# Altium footprint library HAKATAYA.PcbLib: 227 footprints (part 7 of 15)
Each footprint in its own frame and in the unit in brackets; x right, y up, seen from the top. Pads: shape width x height; smd on the part's side, far side on the other; paste and mask are expansions set on the pad; w line width, h text height; cw(c..) or ccw(c..) is an arc to the next point about the centre after c.
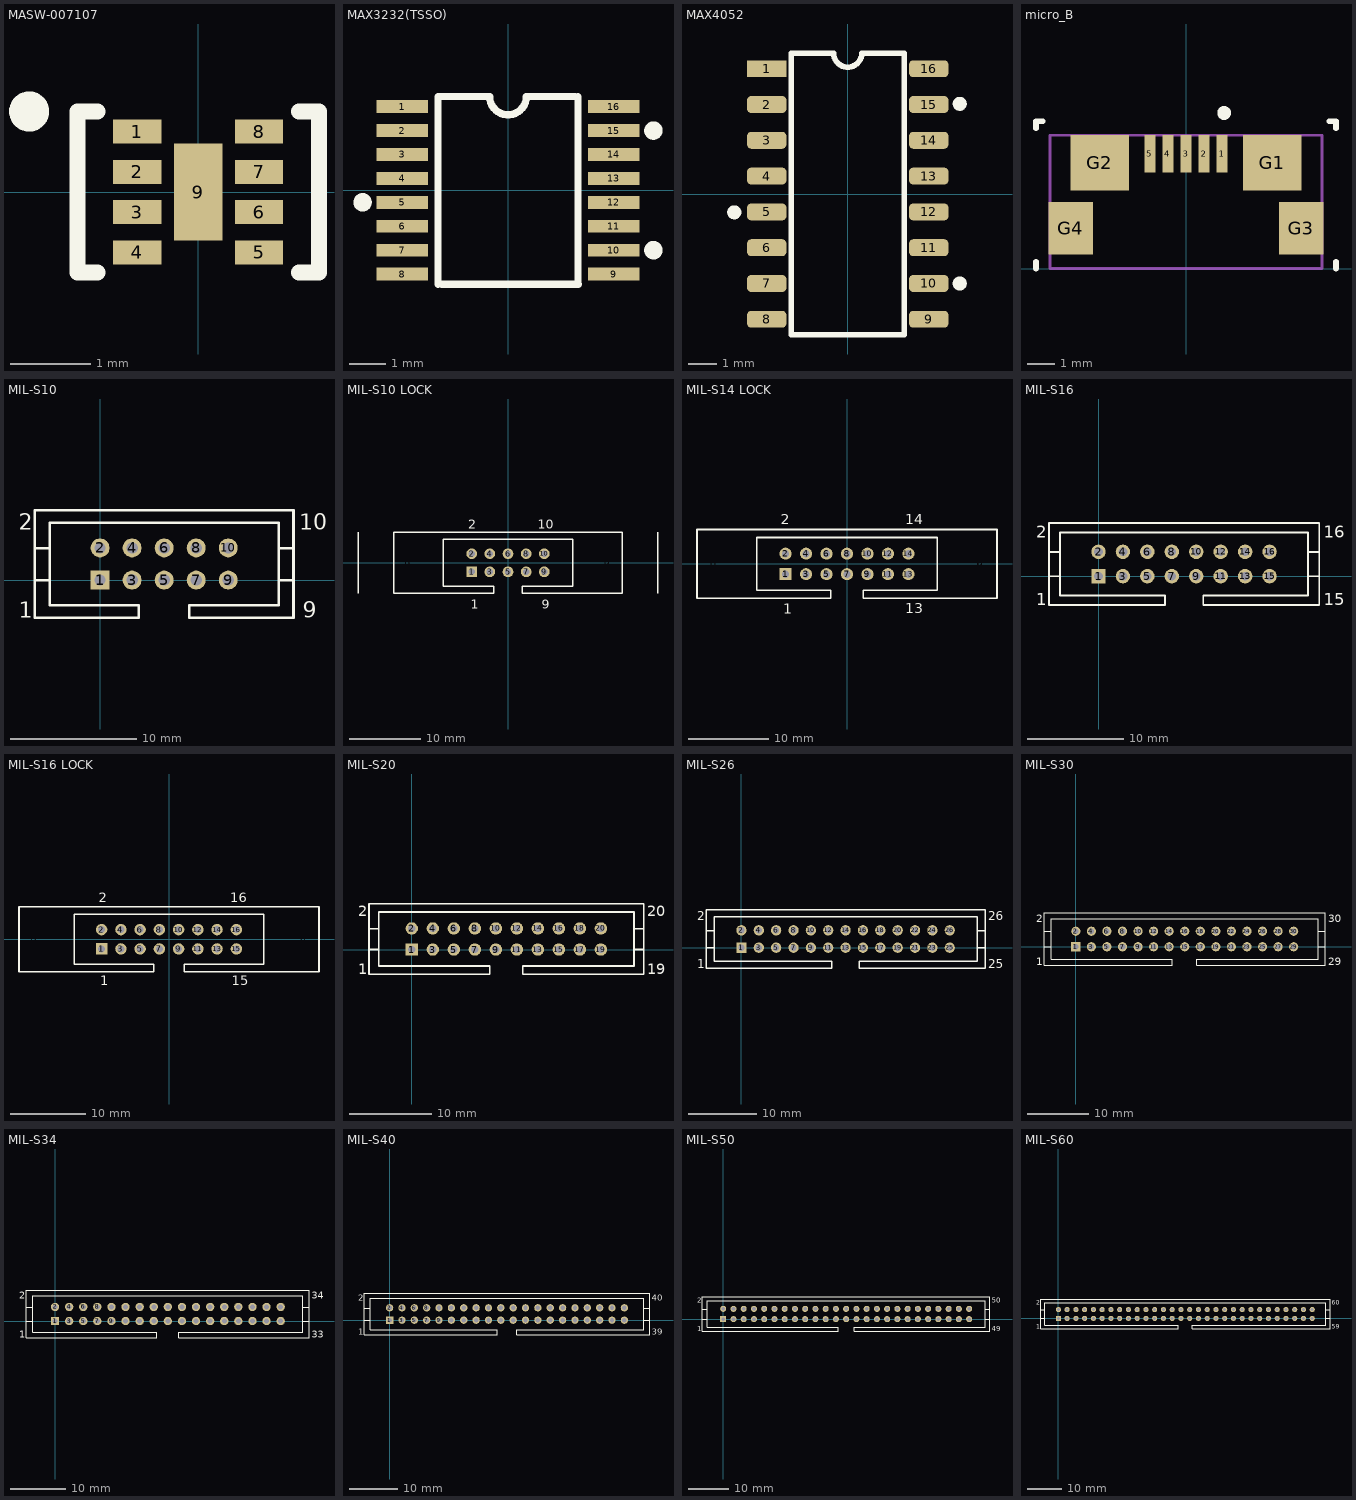
[diagram p6: the footprints below, top view; thin cyan lines are the x and y axes]

## MASW-007107 [mm] "MACOM BROADBAND SWITCH"
height 0.9
pads (9):
  rect 0.6x0.3 smd: 1(-0.755,0.75) 2(-0.755,0.25) 3(-0.755,-0.25) 4(-0.755,-0.75) 5(0.755,-0.75) 6(0.755,-0.25) 7(0.755,0.25) 8(0.755,0.75)
  rect 0.6x1.2 smd mask-3.734: 9(0,0)
Top Overlay:
  circle w0.25: c-2.1,1 r0.125
  lines w0.2: -1.25,-1 -1.5,-1 -1.5,1 -1.25,1 ; 1.25,-1 1.5,-1 1.5,1 1.25,1

## MAX3232(TSSO) [mm] "TSSOP U16+1"
height 1.1
pads (16):
  rect 1.4x0.35 smd: 1(-2.875,2.275) 2(-2.875,1.625) 3(-2.875,0.975) 4(-2.875,0.325) 5(-2.875,-0.325) 6(-2.875,-0.975) 7(-2.875,-1.625) 8(-2.875,-2.275) 9(2.875,-2.275) 10(2.875,-1.625) 11(2.875,-0.975) 12(2.875,-0.325) 13(2.875,0.325) 14(2.875,0.975) 15(2.875,1.625) 16(2.875,2.275)
Top Overlay:
  circle w0.25: c3.95,-1.625 r0.125
  circle w0.25: c-3.95,-0.325 r0.125
  circle w0.25: c3.95,1.625 r0.125
  lines w0.2: -1.9,-2.55 -1.9,2.55 ; -1.85,2.55 -0.5,2.55 ccw(c0,2.55) 0.5,2.55 1.825,2.55 ; -1.8,-2.55 1.908,-2.55 ; 1.9,-2.55 1.9,2.55

## MAX4052 [mm] "Narrow SO  Pitch 1.27mm"
height 1.75
pads (16):
  rect 1.4x0.6 smd: 1(-2.875,4.445)
  rrect50% 1.4x0.6 smd: 2(-2.875,3.175) 3(-2.875,1.905) 4(-2.875,0.635) 5(-2.875,-0.635) 6(-2.875,-1.905) 7(-2.875,-3.175) 8(-2.875,-4.445) 9(2.875,-4.445) 10(2.875,-3.175) 11(2.875,-1.905) 12(2.875,-0.635) 13(2.875,0.635) 14(2.875,1.905) 15(2.875,3.175) 16(2.875,4.445)
Top Overlay:
  circle w0.25: c3.975,-3.175 r0.125
  circle w0.25: c-4.025,-0.65 r0.125
  circle w0.25: c3.975,3.2 r0.125
  lines w0.2: -2,-5 -2,5 -0.5,5 ccw(c0,5) 0.5,5 2,5 2,-5 -2,-5

## micro_B [mm] "USB micro_B"
pads (9):
  rect 0.4x1.35 smd: 1(1.3,4.125) 2(0.65,4.125) 3(0,4.125) 4(-0.65,4.125) 5(-1.3,4.125)
  rect 2.1x2 smd: G1(3.1,3.8) G2(-3.1,3.8)
  rect 1.6x1.9 smd: G3(4.15,1.45) G4(-4.15,1.45)
Top Overlay:
  circle w0.25: c1.375,5.6 r0.125
  lines w0.2: -5.4,0 -5.4,0.25 ; -5.4,5.05 -5.4,5.3 -5.15,5.3 ; 5.15,5.3 5.4,5.3 5.4,5.05 ; 5.4,0 5.4,0.25
Mechanical 13:
  lines w0.1: 4.896,0 4.896,4.8 -4.9,4.8 -4.9,0 4.9,0
3D body: height 1, standoff 0, extent -3.658,0 3.632,3.454

## MIL-S10 [mm] "2.54"
height 14
pads (10):
  rect 1.5x1.5 hole 0.9: 1(0,0)
  round 1.5 hole 0.9: 2(0,2.54) 3(2.54,0) 4(2.54,2.54) 5(5.08,0) 6(5.08,2.54) 7(7.62,0) 8(7.62,2.54) 9(10.16,0) 10(10.16,2.54)
Top Overlay:
  lines w0.2: -5.17,0 -4,0 ; -5.17,2.5 -4,2.5 ; 15.33,0 14.16,0 ; 15.33,2.5 14.16,2.5 ; -4,0 -4,2.5 ; -4,0 -4,-2 3.08,-2 3.08,-3 -5.17,-3 -5.17,5.54 15.33,5.54 15.33,-3 7.08,-3 7.08,-2 14.16,-2 14.16,0 ; -4,2.5 -4,4.54 14.16,4.54 14.16,2.5 ; 14.16,0 14.16,2.5
  text "1" at -6.42,-3 h1.27
  text "2" at -6.42,4 h1.27
  text "9" at 16.08,-3 h1.27
  text "10" at 15.8,4 h1.27

## MIL-S10 LOCK [mm] "XG4A MIL-SPEC"
height 17
pads (12):
  round 1.6 on Drill Drawing: 0(-14,0) 0(14,0)
  rect 1.5x1.5 hole 0.9: 1(-5.08,-1.27)
  round 1.5 hole 0.9: 2(-5.08,1.27) 3(-2.54,-1.27) 4(-2.54,1.27) 5(0,-1.27) 6(0,1.27) 7(2.54,-1.27) 8(2.54,1.27) 9(5.08,-1.27) 10(5.08,1.27)
Top Overlay:
  lines w0.2: -21,-4.27 -21,4.27 ; 21,-4.27 21,4.27 ; -16,-4.27 -2,-4.27 -2,-3.27 -9.08,-3.27 -9.08,-1.27 -9.08,1.23 -9.08,3.27 9.08,3.27 9.08,1.23 9.08,-1.27 9.08,-3.27 2,-3.27 2,-4.27 16,-4.27 16,4.27 -16,4.27 -16,-4.27
  text "1" at -5.2,-6.4 h1.27
  text "2" at -5.6,4.8 h1.27
  text "9" at 4.7,-6.4 h1.27
  text "10" at 4.2,4.8 h1.27

## MIL-S14 LOCK [mm]
pads (16):
  round 1.6 on Drill Drawing: 0(-16.5,0) 0(16.5,0)
  rect 1.5x1.5 hole 0.9: 1(-7.62,-1.27)
  round 1.5 hole 0.9: 2(-7.62,1.27) 3(-5.08,-1.27) 4(-5.08,1.27) 5(-2.54,-1.27) 6(-2.54,1.27) 7(0,-1.27) 8(0,1.27) 9(2.54,-1.27) 10(2.54,1.27) 11(5.08,-1.27) 12(5.08,1.27) 13(7.62,-1.27) 14(7.62,1.27)
Top Overlay:
  lines w0.2: -18.6,-4.27 -18.6,4.27 18.6,4.27 18.6,-4.27 2,-4.27 2,-3.27 11.2,-3.27 11.2,3.27 -11.2,3.27 -11.2,-3.27 -2,-3.27 -2,-4.27 -18.6,-4.27
  text "14" at 7.2,4.9 h1.27
  text "13" at 7.2,-6.1 h1.27
  text "2" at -8.2,4.9 h1.27
  text "1" at -7.9,-6.2 h1.27

## MIL-S16 [mm] "2.54"
height 14
pads (16):
  rect 1.5x1.5 hole 0.9: 1(0,0)
  round 1.5 hole 0.9: 2(0,2.54) 3(2.54,0) 4(2.54,2.54) 5(5.08,0) 6(5.08,2.54) 7(7.62,0) 8(7.62,2.54) 9(10.16,0) 10(10.16,2.54) 11(12.7,0) 12(12.7,2.54) 13(15.24,0) 14(15.24,2.54) 15(17.78,0) 16(17.78,2.54)
Top Overlay:
  lines w0.2: -5.17,0 -4,0 ; -5.17,2.5 -4,2.5 ; 22.95,0 21.78,0 ; 22.95,2.5 21.78,2.5 ; -4,0 -4,2.5 ; -4,0 -4,-2 6.89,-2 6.89,-3 -5.17,-3 -5.17,5.54 22.95,5.54 22.95,-3 10.89,-3 10.89,-2 21.78,-2 21.78,0 ; -4,2.5 -4,4.54 21.78,4.54 21.78,2.5 ; 21.78,0 21.78,2.5
  text "1" at -6.5,-3 h1.27
  text "2" at -6.5,4 h1.27
  text "15" at 23.42,-3 h1.27
  text "16" at 23.42,4 h1.27

## MIL-S16 LOCK [mm]
pads (18):
  round 1.6 on Drill Drawing: 0(-17.8,0) 0(17.8,0)
  rect 1.5x1.5 hole 0.9: 1(-8.89,-1.27)
  round 1.5 hole 0.9: 2(-8.89,1.27) 3(-6.35,-1.27) 4(-6.35,1.27) 5(-3.81,-1.27) 6(-3.81,1.27) 7(-1.27,-1.27) 8(-1.27,1.27) 9(1.27,-1.27) 10(1.27,1.27) 11(3.81,-1.27) 12(3.81,1.27) 13(6.35,-1.27) 14(6.35,1.27) 15(8.89,-1.27) 16(8.89,1.27)
Top Overlay:
  lines w0.2: -19.8,-4.27 -2,-4.27 -2,-3.27 -12.5,-3.27 -12.5,3.27 12.5,3.27 12.5,-3.27 2,-3.27 2,-4.27 19.8,-4.27 19.8,4.27 -19.8,4.27 -19.8,-4.27
  text "1" at -9.1,-6.1 h1.27
  text "2" at -9.3,4.9 h1.27
  text "15" at 8.3,-6.1 h1.27
  text "16" at 8.1,4.9 h1.27

## MIL-S20 [mm] "2.54"
height 14
pads (20):
  rect 1.5x1.5 hole 0.9: 1(0,0)
  round 1.5 hole 0.9: 2(0,2.54) 3(2.54,0) 4(2.54,2.54) 5(5.08,0) 6(5.08,2.54) 7(7.62,0) 8(7.62,2.54) 9(10.16,0) 10(10.16,2.54) 11(12.7,0) 12(12.7,2.54) 13(15.24,0) 14(15.24,2.54) 15(17.78,0) 16(17.78,2.54) 17(20.32,0) 18(20.32,2.54) 19(22.86,0) 20(22.86,2.54)
Top Overlay:
  lines w0.2: -5.17,0 -4,0 ; -5.17,2.5 -4,2.5 ; 28.03,0 26.86,0 ; 28.03,2.5 26.86,2.5 ; -4,0 -4,2.5 ; -4,0 -4,-2 9.43,-2 9.43,-3 -5.17,-3 -5.17,5.54 28.03,5.54 28.03,-3 13.43,-3 13.43,-2 26.86,-2 26.86,0 ; -4,2.5 -4,4.54 26.86,4.54 26.86,2.5 ; 26.86,0 26.86,2.5
  text "20" at 28.5,4 h1.27
  text "19" at 28.5,-3 h1.27
  text "1" at -6.5,-3 h1.27
  text "2" at -6.5,4 h1.27

## MIL-S26 [mm] "2.54"
height 14
pads (26):
  rect 1.5x1.5 hole 0.9: 1(0,0)
  round 1.5 hole 0.9: 2(0,2.54) 3(2.54,0) 4(2.54,2.54) 5(5.08,0) 6(5.08,2.54) 7(7.62,0) 8(7.62,2.54) 9(10.16,0) 10(10.16,2.54) 11(12.7,0) 12(12.7,2.54) 13(15.24,0) 14(15.24,2.54) 15(17.78,0) 16(17.78,2.54) 17(20.32,0) 18(20.32,2.54) 19(22.86,0) 20(22.86,2.54) 21(25.4,0) 22(25.4,2.54) 23(27.94,0) 24(27.94,2.54) 25(30.48,0) 26(30.48,2.54)
Top Overlay:
  lines w0.2: -5.17,0 -4,0 ; -5.17,2.5 -4,2.5 ; 35.65,0 34.48,0 ; 35.65,2.5 34.48,2.5 ; -4,0 -4,-2 13.24,-2 13.24,-3 -5.17,-3 -5.17,5.54 35.65,5.54 35.65,-3 17.24,-3 17.24,-2 34.48,-2 34.48,0 ; -4,0 -4,2.5 ; -4,2.5 -4,4.54 34.48,4.54 34.48,2.5 ; 34.48,0 34.48,2.5
  text "25" at 36.12,-3 h1.27
  text "26" at 36.12,4 h1.27
  text "2" at -6.5,4 h1.27
  text "1" at -6.5,-3 h1.27

## MIL-S30 [mm] "2.54"
height 14
pads (30):
  rect 1.5x1.5 hole 0.9: 1(0,0)
  round 1.5 hole 0.9: 2(0,2.54) 3(2.54,0) 4(2.54,2.54) 5(5.08,0) 6(5.08,2.54) 7(7.62,0) 8(7.62,2.54) 9(10.16,0) 10(10.16,2.54) 11(12.7,0) 12(12.7,2.54) 13(15.24,0) 14(15.24,2.54) 15(17.78,0) 16(17.78,2.54) 17(20.32,0) 18(20.32,2.54) 19(22.86,0) 20(22.86,2.54) 21(25.4,0) 22(25.4,2.54) 23(27.94,0) 24(27.94,2.54) 25(30.48,0) 26(30.48,2.54) 27(33.02,0) 28(33.02,2.54) 29(35.56,0) 30(35.56,2.54)
Top Overlay:
  lines w0.2: -5.17,0 -4,0 ; -5.17,2.5 -4,2.5 ; 40.73,0 39.56,0 ; 40.73,2.5 39.56,2.5 ; -4,0 -4,2.5 ; -4,0 -4,-2 15.78,-2 15.78,-3 -5.17,-3 -5.17,5.54 40.73,5.54 40.73,-3 19.78,-3 19.78,-2 39.56,-2 39.56,0 ; -4,2.5 -4,4.54 39.56,4.54 39.56,2.5 ; 39.56,0 39.56,2.5
  text "29" at 41.2,-3 h1.27
  text "30" at 41.2,4 h1.27
  text "1" at -6.5,-3 h1.27
  text "2" at -6.5,4 h1.27

## MIL-S34 [mm] "2.54"
height 14
pads (34):
  rect 1.5x1.5 hole 0.9: 1(0,0)
  round 1.5 hole 0.9: 2(0,2.54) 3(2.54,0) 4(2.54,2.54) 5(5.08,0) 6(5.08,2.54) 7(7.62,0) 8(7.62,2.54) 9(10.16,0) 10(10.16,2.54) 11(12.7,0) 12(12.7,2.54) 13(15.24,0) 14(15.24,2.54) 15(17.78,0) 16(17.78,2.54) 17(20.32,0) 18(20.32,2.54) 19(22.86,0) 20(22.86,2.54) 21(25.4,0) 22(25.4,2.54) 23(27.94,0) 24(27.94,2.54) 25(30.48,0) 26(30.48,2.54) 27(33.02,0) 28(33.02,2.54) 29(35.56,0) 30(35.56,2.54) 31(38.1,0) 32(38.1,2.54) 33(40.64,0) 34(40.64,2.54)
Top Overlay:
  lines w0.2: -5.17,0 -4,0 ; -5.17,2.5 -4,2.5 ; 45.81,0 44.64,0 ; 45.81,2.5 44.64,2.5 ; -4,0 -4,2.5 ; -4,0 -4,-2 18.32,-2 18.32,-3 -5.17,-3 -5.17,5.54 45.81,5.54 45.81,-3 22.32,-3 22.32,-2 44.64,-2 44.64,0 ; -4,2.5 -4,4.54 44.64,4.54 44.64,2.5 ; 44.64,0 44.64,2.5
  text "33" at 46.28,-3 h1.27
  text "34" at 46.28,4 h1.27
  text "1" at -6.5,-3 h1.27
  text "2" at -6.5,4 h1.27

## MIL-S40 [mm] "2.54"
height 14
pads (40):
  rect 1.5x1.5 hole 0.9: 1(0,0)
  round 1.5 hole 0.9: 2(0,2.54) 3(2.54,0) 4(2.54,2.54) 5(5.08,0) 6(5.08,2.54) 7(7.62,0) 8(7.62,2.54) 9(10.16,0) 10(10.16,2.54) 11(12.7,0) 12(12.7,2.54) 13(15.24,0) 14(15.24,2.54) 15(17.78,0) 16(17.78,2.54) 17(20.32,0) 18(20.32,2.54) 19(22.86,0) 20(22.86,2.54) 21(25.4,0) 22(25.4,2.54) 23(27.94,0) 24(27.94,2.54) 25(30.48,0) 26(30.48,2.54) 27(33.02,0) 28(33.02,2.54) 29(35.56,0) 30(35.56,2.54) 31(38.1,0) 32(38.1,2.54) 33(40.64,0) 34(40.64,2.54) 35(43.18,0) 36(43.18,2.54) 37(45.72,0) 38(45.72,2.54) 39(48.26,0) 40(48.26,2.54)
Top Overlay:
  lines w0.2: -5.17,0 -4,0 ; -5.17,2.5 -4,2.5 ; 53.43,0 52.26,0 ; 53.43,2.5 52.26,2.5 ; -4,0 -4,2.5 ; -4,0 -4,-2 22.13,-2 22.13,-3 -5.17,-3 -5.17,5.54 53.43,5.54 53.43,-3 26.13,-3 26.13,-2 52.26,-2 52.26,0 ; -4,2.5 -4,4.54 52.26,4.54 52.26,2.5 ; 52.26,0 52.26,2.5
  text "1" at -6.5,-3 h1.27
  text "2" at -6.5,4 h1.27
  text "39" at 53.9,-3 h1.27
  text "40" at 53.9,4 h1.27

## MIL-S50 [mm] "2.54"
height 14
pads (50):
  rect 1.5x1.5 hole 0.9: 1(0,0)
  round 1.5 hole 0.9: 2(0,2.54) 3(2.54,0) 4(2.54,2.54) 5(5.08,0) 6(5.08,2.54) 7(7.62,0) 8(7.62,2.54) 9(10.16,0) 10(10.16,2.54) 11(12.7,0) 12(12.7,2.54) 13(15.24,0) 14(15.24,2.54) 15(17.78,0) 16(17.78,2.54) 17(20.32,0) 18(20.32,2.54) 19(22.86,0) 20(22.86,2.54) 21(25.4,0) 22(25.4,2.54) 23(27.94,0) 24(27.94,2.54) 25(30.48,0) 26(30.48,2.54) 27(33.02,0) 28(33.02,2.54) 29(35.56,0) 30(35.56,2.54) 31(38.1,0) 32(38.1,2.54) 33(40.64,0) 34(40.64,2.54) 35(43.18,0) 36(43.18,2.54) 37(45.72,0) 38(45.72,2.54) 39(48.26,0) 40(48.26,2.54) 41(50.8,0) 42(50.8,2.54) 43(53.34,0) 44(53.34,2.54) 45(55.88,0) 46(55.88,2.54) 47(58.42,0) 48(58.42,2.54) 49(60.96,0) 50(60.96,2.54)
Top Overlay:
  lines w0.2: -5.17,0 -4,0 ; -5.17,2.5 -4,2.5 ; 66.13,0 64.96,0 ; 66.13,2.5 64.96,2.5 ; -4,0 -4,2.5 ; -4,0 -4,-2 28.48,-2 28.48,-3 -5.17,-3 -5.17,5.54 66.13,5.54 66.13,-3 32.48,-3 32.48,-2 64.96,-2 64.96,0 ; -4,2.5 -4,4.54 64.96,4.54 64.96,2.5 ; 64.96,0 64.96,2.5
  text "50" at 66.6,4 h1.27
  text "49" at 66.6,-3 h1.27
  text "1" at -6.5,-3 h1.27
  text "2" at -6.5,4 h1.27

## MIL-S60 [mm] "2.54"
height 14
pads (60):
  rect 1.5x1.5 hole 0.9: 1(0,0)
  round 1.5 hole 0.9: 2(0,2.54) 3(2.54,0) 4(2.54,2.54) 5(5.08,0) 6(5.08,2.54) 7(7.62,0) 8(7.62,2.54) 9(10.16,0) 10(10.16,2.54) 11(12.7,0) 12(12.7,2.54) 13(15.24,0) 14(15.24,2.54) 15(17.78,0) 16(17.78,2.54) 17(20.32,0) 18(20.32,2.54) 19(22.86,0) 20(22.86,2.54) 21(25.4,0) 22(25.4,2.54) 23(27.94,0) 24(27.94,2.54) 25(30.48,0) 26(30.48,2.54) 27(33.02,0) 28(33.02,2.54) 29(35.56,0) 30(35.56,2.54) 31(38.1,0) 32(38.1,2.54) 33(40.64,0) 34(40.64,2.54) 35(43.18,0) 36(43.18,2.54) 37(45.72,0) 38(45.72,2.54) 39(48.26,0) 40(48.26,2.54) 41(50.8,0) 42(50.8,2.54) 43(53.34,0) 44(53.34,2.54) 45(55.88,0) 46(55.88,2.54) 47(58.42,0) 48(58.42,2.54) 49(60.96,0) 50(60.96,2.54) 51(63.5,0) 52(63.5,2.54) 53(66.04,0) 54(66.04,2.54) 55(68.58,0) 56(68.58,2.54) 57(71.12,0) 58(71.12,2.54) 59(73.66,0) 60(73.66,2.54)
Top Overlay:
  lines w0.2: -5.17,0 -4,0 ; -5.17,2.5 -4,2.5 ; 78.83,0 77.66,0 ; 78.83,2.5 77.66,2.5 ; -4,0 -4,2.5 ; -4,0 -4,-2 34.83,-2 34.83,-3 -5.17,-3 -5.17,5.54 78.83,5.54 78.83,-3 38.83,-3 38.83,-2 77.66,-2 77.66,0 ; -4,2.5 -4,4.54 77.66,4.54 77.66,2.5 ; 77.66,0 77.66,2.5
  text "1" at -6.5,-3 h1.27
  text "2" at -6.5,4 h1.27
  text "60" at 79.3,4 h1.27
  text "59" at 79.3,-3 h1.27